# EAGLE library part 693010030601 (library Wurth_Elektronik_Electromechanic_Input-Output_Connectors_rev15c)
WR-CRD SIM CARD CONNECTOR HEADER SHIELDED W/O CARD STOP 6PINS=>Code : Con_I-O_COM_CRD_SIM_Mini_693010030601 <http://katalog.we-online.de/media/images/eican/Con_I-O_COM_CRD_SIM_Mini_693010030601_pf2.jpg> Details see: http://katalog.we-online.de/en/em/693_010_030_601 Created 2014-07-09, Karrer Zheng 2014 (C) Würth Elektronik
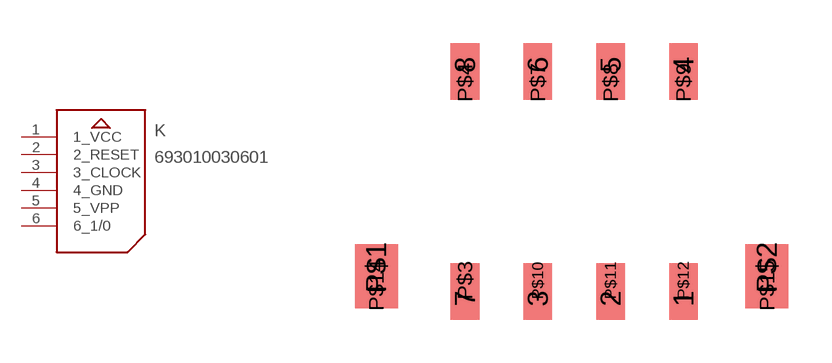
[diagram p91: symbol with the pads of 693010030601; footprint 693010030601]

Designator prefix K

## 693010030601  [693010030601]
1  1_VCC
2  2_RESET
3  3_CLOCK
4  4_GND
5  5_VPP
6  6_1/0

## Footprint 693010030601 (pad centres in mm)
WR-CRD SIM CARD CONNECTOR HEADER SHIELDED W/O CARD STOP 6 PINS
smd 1 x 1.5: 1 5.08,-11.33; 2 2.54,-11.33; 3 0,-11.33; 4 5.08,-3.175; 5 2.54,-3.175; 6 0,-3.175; 7 -2.54,-11.33; 8 -2.54,-3.175
smd 1.5 x 1.6: P$1 -5.635,-10.245; P$2 7.995,-10.245; P$14 -5.635,-10.88; P$15 7.995,-10.88
smd 1 x 1.2: P$3 -2.54,-10.7; P$4 -2.54,-3.805; P$7 0,-3.805; P$8 2.54,-3.805; P$9 5.08,-3.805; P$10 0,-10.7; P$11 2.54,-10.7; P$12 5.08,-10.7